# Altium footprint library DA14531MOD-00F01002 Bluetooth v5.1 Transceiver Module.PcbLib: 1 footprints
Each footprint in its own frame and in the unit in brackets; x right, y up, seen from the top. Pads: shape width x height; smd on the part's side, far side on the other; paste and mask are expansions set on the pad; w line width, h text height; cw(c..) or ccw(c..) is an arc to the next point about the centre after c.
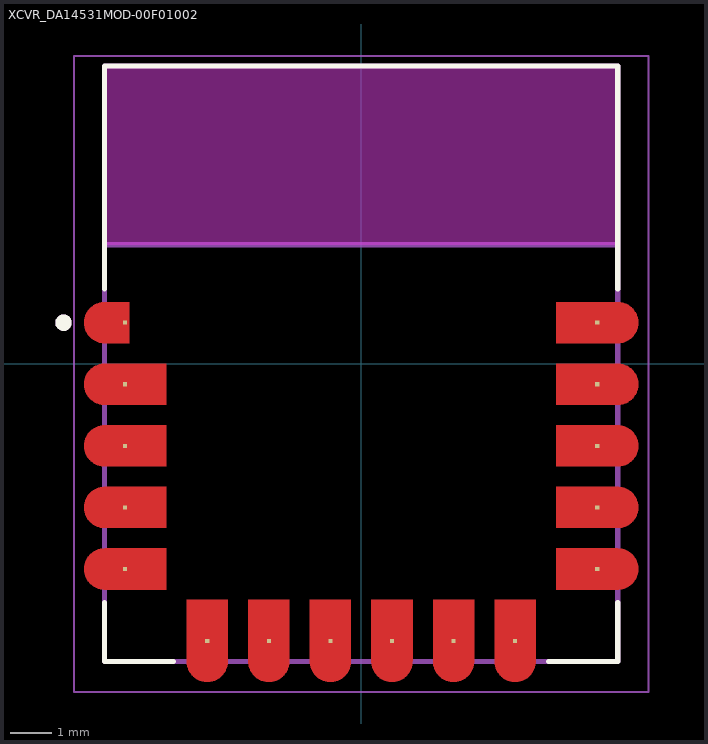
[diagram p0: the footprint, top view; thin cyan lines are the x and y axes]

## XCVR_DA14531MOD-00F01002 [mm]
pads (16):
  rect 0.1x0.1 smd paste-1 mask+0: J1(-5.75,1) J2(-5.75,-0.5) J3(-5.75,-2) J4(-5.75,-3.5) J5(-5.75,-5) J6(-3.75,-6.75) J7(-2.25,-6.75) J8(-0.75,-6.75) J9(0.75,-6.75) J10(2.25,-6.75) J11(3.75,-6.75) J12(5.75,-5) J13(5.75,-3.5) J14(5.75,-2) J15(5.75,-0.5) J16(5.75,1)
Top Layer:
  region: -5.65,0.5 -6.25,0.5 -6.276,0.501 -6.302,0.503 -6.328,0.506 -6.354,0.511 -6.379,0.517 -6.405,0.524 -6.429,0.533 -6.453,0.543 -6.477,0.554 -6.5,0.567 -6.522,0.581 -6.544,0.595 -6.565,0.611 -6.585,0.628 -6.604,0.646 -6.622,0.665 -6.639,0.685 -6.655,0.706 -6.669,0.728 -6.683,0.75 -6.696,0.773 -6.707,0.797 -6.717,0.821 -6.726,0.845 -6.733,0.871 -6.739,0.896 -6.744,0.922 -6.747,0.948 -6.749,0.974 -6.75,1 -6.749,1.026 -6.747,1.052 -6.744,1.078 -6.739,1.104 -6.733,1.129 -6.726,1.155 -6.717,1.179 -6.707,1.203 -6.696,1.227 -6.683,1.25 -6.669,1.272 -6.655,1.294 -6.639,1.315 -6.622,1.335 -6.604,1.354 -6.585,1.372 -6.565,1.389 -6.544,1.405 -6.522,1.419 -6.5,1.433 -6.477,1.446 -6.453,1.457 -6.429,1.467 -6.405,1.476 -6.379,1.483 -6.354,1.489 -6.328,1.494 -6.302,1.497 -6.276,1.499 -6.25,1.5 -5.65,1.5
  region: -4.75,-1 -6.25,-1 -6.276,-0.999 -6.302,-0.997 -6.328,-0.994 -6.354,-0.989 -6.379,-0.983 -6.405,-0.976 -6.429,-0.967 -6.453,-0.957 -6.477,-0.946 -6.5,-0.933 -6.522,-0.919 -6.544,-0.905 -6.565,-0.889 -6.585,-0.872 -6.604,-0.854 -6.622,-0.835 -6.639,-0.815 -6.655,-0.794 -6.669,-0.772 -6.683,-0.75 -6.696,-0.727 -6.707,-0.703 -6.717,-0.679 -6.726,-0.655 -6.733,-0.629 -6.739,-0.604 -6.744,-0.578 -6.747,-0.552 -6.749,-0.526 -6.75,-0.5 -6.749,-0.474 -6.747,-0.448 -6.744,-0.422 -6.739,-0.396 -6.733,-0.371 -6.726,-0.345 -6.717,-0.321 -6.707,-0.297 -6.696,-0.273 -6.683,-0.25 -6.669,-0.228 -6.655,-0.206 -6.639,-0.185 -6.622,-0.165 -6.604,-0.146 -6.585,-0.128 -6.565,-0.111 -6.544,-0.095 -6.522,-0.081 -6.5,-0.067 -6.477,-0.054 -6.453,-0.043 -6.429,-0.033 -6.405,-0.024 -6.379,-0.017 -6.354,-0.011 -6.328,-0.006 -6.302,-0.003 -6.276,-0.001 -6.25,0 -4.75,0
  region: -4.75,-2.5 -6.25,-2.5 -6.276,-2.499 -6.302,-2.497 -6.328,-2.494 -6.354,-2.489 -6.379,-2.483 -6.405,-2.476 -6.429,-2.467 -6.453,-2.457 -6.477,-2.446 -6.5,-2.433 -6.522,-2.419 -6.544,-2.405 -6.565,-2.389 -6.585,-2.372 -6.604,-2.354 -6.622,-2.335 -6.639,-2.315 -6.655,-2.294 -6.669,-2.272 -6.683,-2.25 -6.696,-2.227 -6.707,-2.203 -6.717,-2.179 -6.726,-2.155 -6.733,-2.129 -6.739,-2.104 -6.744,-2.078 -6.747,-2.052 -6.749,-2.026 -6.75,-2 -6.749,-1.974 -6.747,-1.948 -6.744,-1.922 -6.739,-1.896 -6.733,-1.871 -6.726,-1.845 -6.717,-1.821 -6.707,-1.797 -6.696,-1.773 -6.683,-1.75 -6.669,-1.728 -6.655,-1.706 -6.639,-1.685 -6.622,-1.665 -6.604,-1.646 -6.585,-1.628 -6.565,-1.611 -6.544,-1.595 -6.522,-1.581 -6.5,-1.567 -6.477,-1.554 -6.453,-1.543 -6.429,-1.533 -6.405,-1.524 -6.379,-1.517 -6.354,-1.511 -6.328,-1.506 -6.302,-1.503 -6.276,-1.501 -6.25,-1.5 -4.75,-1.5
  region: -4.75,-4 -6.25,-4 -6.276,-3.999 -6.302,-3.997 -6.328,-3.994 -6.354,-3.989 -6.379,-3.983 -6.405,-3.976 -6.429,-3.967 -6.453,-3.957 -6.477,-3.946 -6.5,-3.933 -6.522,-3.919 -6.544,-3.905 -6.565,-3.889 -6.585,-3.872 -6.604,-3.854 -6.622,-3.835 -6.639,-3.815 -6.655,-3.794 -6.669,-3.772 -6.683,-3.75 -6.696,-3.727 -6.707,-3.703 -6.717,-3.679 -6.726,-3.655 -6.733,-3.629 -6.739,-3.604 -6.744,-3.578 -6.747,-3.552 -6.749,-3.526 -6.75,-3.5 -6.749,-3.474 -6.747,-3.448 -6.744,-3.422 -6.739,-3.396 -6.733,-3.371 -6.726,-3.345 -6.717,-3.321 -6.707,-3.297 -6.696,-3.273 -6.683,-3.25 -6.669,-3.228 -6.655,-3.206 -6.639,-3.185 -6.622,-3.165 -6.604,-3.146 -6.585,-3.128 -6.565,-3.111 -6.544,-3.095 -6.522,-3.081 -6.5,-3.067 -6.477,-3.054 -6.453,-3.043 -6.429,-3.033 -6.405,-3.024 -6.379,-3.017 -6.354,-3.011 -6.328,-3.006 -6.302,-3.003 -6.276,-3.001 -6.25,-3 -4.75,-3
  region: -4.75,-5.5 -6.25,-5.5 -6.276,-5.499 -6.302,-5.497 -6.328,-5.494 -6.354,-5.489 -6.379,-5.483 -6.405,-5.476 -6.429,-5.467 -6.453,-5.457 -6.477,-5.446 -6.5,-5.433 -6.522,-5.419 -6.544,-5.405 -6.565,-5.389 -6.585,-5.372 -6.604,-5.354 -6.622,-5.335 -6.639,-5.315 -6.655,-5.294 -6.669,-5.272 -6.683,-5.25 -6.696,-5.227 -6.707,-5.203 -6.717,-5.179 -6.726,-5.155 -6.733,-5.129 -6.739,-5.104 -6.744,-5.078 -6.747,-5.052 -6.749,-5.026 -6.75,-5 -6.749,-4.974 -6.747,-4.948 -6.744,-4.922 -6.739,-4.896 -6.733,-4.871 -6.726,-4.845 -6.717,-4.821 -6.707,-4.797 -6.696,-4.773 -6.683,-4.75 -6.669,-4.728 -6.655,-4.706 -6.639,-4.685 -6.622,-4.665 -6.604,-4.646 -6.585,-4.628 -6.565,-4.611 -6.544,-4.595 -6.522,-4.581 -6.5,-4.567 -6.477,-4.554 -6.453,-4.543 -6.429,-4.533 -6.405,-4.524 -6.379,-4.517 -6.354,-4.511 -6.328,-4.506 -6.302,-4.503 -6.276,-4.501 -6.25,-4.5 -4.75,-4.5
  region: -3.25,-7.25 -3.251,-7.276 -3.253,-7.302 -3.256,-7.328 -3.261,-7.354 -3.267,-7.379 -3.274,-7.405 -3.283,-7.429 -3.293,-7.453 -3.304,-7.477 -3.317,-7.5 -3.331,-7.522 -3.345,-7.544 -3.361,-7.565 -3.378,-7.585 -3.396,-7.604 -3.415,-7.622 -3.435,-7.639 -3.456,-7.655 -3.478,-7.669 -3.5,-7.683 -3.523,-7.696 -3.547,-7.707 -3.571,-7.717 -3.595,-7.726 -3.621,-7.733 -3.646,-7.739 -3.672,-7.744 -3.698,-7.747 -3.724,-7.749 -3.75,-7.75 -3.776,-7.749 -3.802,-7.747 -3.828,-7.744 -3.854,-7.739 -3.879,-7.733 -3.905,-7.726 -3.929,-7.717 -3.953,-7.707 -3.977,-7.696 -4,-7.683 -4.022,-7.669 -4.044,-7.655 -4.065,-7.639 -4.085,-7.622 -4.104,-7.604 -4.122,-7.585 -4.139,-7.565 -4.155,-7.544 -4.169,-7.522 -4.183,-7.5 -4.196,-7.477 -4.207,-7.453 -4.217,-7.429 -4.226,-7.405 -4.233,-7.379 -4.239,-7.354 -4.244,-7.328 -4.247,-7.302 -4.249,-7.276 -4.25,-7.25 -4.25,-5.75 -3.25,-5.75
  region: -1.75,-7.25 -1.751,-7.276 -1.753,-7.302 -1.756,-7.328 -1.761,-7.354 -1.767,-7.379 -1.774,-7.405 -1.783,-7.429 -1.793,-7.453 -1.804,-7.477 -1.817,-7.5 -1.831,-7.522 -1.845,-7.544 -1.861,-7.565 -1.878,-7.585 -1.896,-7.604 -1.915,-7.622 -1.935,-7.639 -1.956,-7.655 -1.978,-7.669 -2,-7.683 -2.023,-7.696 -2.047,-7.707 -2.071,-7.717 -2.095,-7.726 -2.121,-7.733 -2.146,-7.739 -2.172,-7.744 -2.198,-7.747 -2.224,-7.749 -2.25,-7.75 -2.276,-7.749 -2.302,-7.747 -2.328,-7.744 -2.354,-7.739 -2.379,-7.733 -2.405,-7.726 -2.429,-7.717 -2.453,-7.707 -2.477,-7.696 -2.5,-7.683 -2.522,-7.669 -2.544,-7.655 -2.565,-7.639 -2.585,-7.622 -2.604,-7.604 -2.622,-7.585 -2.639,-7.565 -2.655,-7.544 -2.669,-7.522 -2.683,-7.5 -2.696,-7.477 -2.707,-7.453 -2.717,-7.429 -2.726,-7.405 -2.733,-7.379 -2.739,-7.354 -2.744,-7.328 -2.747,-7.302 -2.749,-7.276 -2.75,-7.25 -2.75,-5.75 -1.75,-5.75
  region: -0.25,-7.25 -0.251,-7.276 -0.253,-7.302 -0.256,-7.328 -0.261,-7.354 -0.267,-7.379 -0.274,-7.405 -0.283,-7.429 -0.293,-7.453 -0.304,-7.477 -0.317,-7.5 -0.331,-7.522 -0.345,-7.544 -0.361,-7.565 -0.378,-7.585 -0.396,-7.604 -0.415,-7.622 -0.435,-7.639 -0.456,-7.655 -0.478,-7.669 -0.5,-7.683 -0.523,-7.696 -0.547,-7.707 -0.571,-7.717 -0.595,-7.726 -0.621,-7.733 -0.646,-7.739 -0.672,-7.744 -0.698,-7.747 -0.724,-7.749 -0.75,-7.75 -0.776,-7.749 -0.802,-7.747 -0.828,-7.744 -0.854,-7.739 -0.879,-7.733 -0.905,-7.726 -0.929,-7.717 -0.953,-7.707 -0.977,-7.696 -1,-7.683 -1.022,-7.669 -1.044,-7.655 -1.065,-7.639 -1.085,-7.622 -1.104,-7.604 -1.122,-7.585 -1.139,-7.565 -1.155,-7.544 -1.169,-7.522 -1.183,-7.5 -1.196,-7.477 -1.207,-7.453 -1.217,-7.429 -1.226,-7.405 -1.233,-7.379 -1.239,-7.354 -1.244,-7.328 -1.247,-7.302 -1.249,-7.276 -1.25,-7.25 -1.25,-5.75 -0.25,-5.75
  region: 1.25,-7.25 1.249,-7.276 1.247,-7.302 1.244,-7.328 1.239,-7.354 1.233,-7.379 1.226,-7.405 1.217,-7.429 1.207,-7.453 1.196,-7.477 1.183,-7.5 1.169,-7.522 1.155,-7.544 1.139,-7.565 1.122,-7.585 1.104,-7.604 1.085,-7.622 1.065,-7.639 1.044,-7.655 1.022,-7.669 1,-7.683 0.977,-7.696 0.953,-7.707 0.929,-7.717 0.905,-7.726 0.879,-7.733 0.854,-7.739 0.828,-7.744 0.802,-7.747 0.776,-7.749 0.75,-7.75 0.724,-7.749 0.698,-7.747 0.672,-7.744 0.646,-7.739 0.621,-7.733 0.595,-7.726 0.571,-7.717 0.547,-7.707 0.523,-7.696 0.5,-7.683 0.478,-7.669 0.456,-7.655 0.435,-7.639 0.415,-7.622 0.396,-7.604 0.378,-7.585 0.361,-7.565 0.345,-7.544 0.331,-7.522 0.317,-7.5 0.304,-7.477 0.293,-7.453 0.283,-7.429 0.274,-7.405 0.267,-7.379 0.261,-7.354 0.256,-7.328 0.253,-7.302 0.251,-7.276 0.25,-7.25 0.25,-5.75 1.25,-5.75
  region: 2.75,-7.25 2.749,-7.276 2.747,-7.302 2.744,-7.328 2.739,-7.354 2.733,-7.379 2.726,-7.405 2.717,-7.429 2.707,-7.453 2.696,-7.477 2.683,-7.5 2.669,-7.522 2.655,-7.544 2.639,-7.565 2.622,-7.585 2.604,-7.604 2.585,-7.622 2.565,-7.639 2.544,-7.655 2.522,-7.669 2.5,-7.683 2.477,-7.696 2.453,-7.707 2.429,-7.717 2.405,-7.726 2.379,-7.733 2.354,-7.739 2.328,-7.744 2.302,-7.747 2.276,-7.749 2.25,-7.75 2.224,-7.749 2.198,-7.747 2.172,-7.744 2.146,-7.739 2.121,-7.733 2.095,-7.726 2.071,-7.717 2.047,-7.707 2.023,-7.696 2,-7.683 1.978,-7.669 1.956,-7.655 1.935,-7.639 1.915,-7.622 1.896,-7.604 1.878,-7.585 1.861,-7.565 1.845,-7.544 1.831,-7.522 1.817,-7.5 1.804,-7.477 1.793,-7.453 1.783,-7.429 1.774,-7.405 1.767,-7.379 1.761,-7.354 1.756,-7.328 1.753,-7.302 1.751,-7.276 1.75,-7.25 1.75,-5.75 2.75,-5.75
  region: 4.25,-7.25 4.249,-7.276 4.247,-7.302 4.244,-7.328 4.239,-7.354 4.233,-7.379 4.226,-7.405 4.217,-7.429 4.207,-7.453 4.196,-7.477 4.183,-7.5 4.169,-7.522 4.155,-7.544 4.139,-7.565 4.122,-7.585 4.104,-7.604 4.085,-7.622 4.065,-7.639 4.044,-7.655 4.022,-7.669 4,-7.683 3.977,-7.696 3.953,-7.707 3.929,-7.717 3.905,-7.726 3.879,-7.733 3.854,-7.739 3.828,-7.744 3.802,-7.747 3.776,-7.749 3.75,-7.75 3.724,-7.749 3.698,-7.747 3.672,-7.744 3.646,-7.739 3.621,-7.733 3.595,-7.726 3.571,-7.717 3.547,-7.707 3.523,-7.696 3.5,-7.683 3.478,-7.669 3.456,-7.655 3.435,-7.639 3.415,-7.622 3.396,-7.604 3.378,-7.585 3.361,-7.565 3.345,-7.544 3.331,-7.522 3.317,-7.5 3.304,-7.477 3.293,-7.453 3.283,-7.429 3.274,-7.405 3.267,-7.379 3.261,-7.354 3.256,-7.328 3.253,-7.302 3.251,-7.276 3.25,-7.25 3.25,-5.75 4.25,-5.75
  region: 6.276,-4.501 6.302,-4.503 6.328,-4.506 6.354,-4.511 6.379,-4.517 6.405,-4.524 6.429,-4.533 6.453,-4.543 6.477,-4.554 6.5,-4.567 6.522,-4.581 6.544,-4.595 6.565,-4.611 6.585,-4.628 6.604,-4.646 6.622,-4.665 6.639,-4.685 6.655,-4.706 6.669,-4.728 6.683,-4.75 6.696,-4.773 6.707,-4.797 6.717,-4.821 6.726,-4.845 6.733,-4.871 6.739,-4.896 6.744,-4.922 6.747,-4.948 6.749,-4.974 6.75,-5 6.749,-5.026 6.747,-5.052 6.744,-5.078 6.739,-5.104 6.733,-5.129 6.726,-5.155 6.717,-5.179 6.707,-5.203 6.696,-5.227 6.683,-5.25 6.669,-5.272 6.655,-5.294 6.639,-5.315 6.622,-5.335 6.604,-5.354 6.585,-5.372 6.565,-5.389 6.544,-5.405 6.522,-5.419 6.5,-5.433 6.477,-5.446 6.453,-5.457 6.429,-5.467 6.405,-5.476 6.379,-5.483 6.354,-5.489 6.328,-5.494 6.302,-5.497 6.276,-5.499 6.25,-5.5 4.75,-5.5 4.75,-4.5 6.25,-4.5
  region: 6.276,-3.001 6.302,-3.003 6.328,-3.006 6.354,-3.011 6.379,-3.017 6.405,-3.024 6.429,-3.033 6.453,-3.043 6.477,-3.054 6.5,-3.067 6.522,-3.081 6.544,-3.095 6.565,-3.111 6.585,-3.128 6.604,-3.146 6.622,-3.165 6.639,-3.185 6.655,-3.206 6.669,-3.228 6.683,-3.25 6.696,-3.273 6.707,-3.297 6.717,-3.321 6.726,-3.345 6.733,-3.371 6.739,-3.396 6.744,-3.422 6.747,-3.448 6.749,-3.474 6.75,-3.5 6.749,-3.526 6.747,-3.552 6.744,-3.578 6.739,-3.604 6.733,-3.629 6.726,-3.655 6.717,-3.679 6.707,-3.703 6.696,-3.727 6.683,-3.75 6.669,-3.772 6.655,-3.794 6.639,-3.815 6.622,-3.835 6.604,-3.854 6.585,-3.872 6.565,-3.889 6.544,-3.905 6.522,-3.919 6.5,-3.933 6.477,-3.946 6.453,-3.957 6.429,-3.967 6.405,-3.976 6.379,-3.983 6.354,-3.989 6.328,-3.994 6.302,-3.997 6.276,-3.999 6.25,-4 4.75,-4 4.75,-3 6.25,-3
  region: 6.276,-1.501 6.302,-1.503 6.328,-1.506 6.354,-1.511 6.379,-1.517 6.405,-1.524 6.429,-1.533 6.453,-1.543 6.477,-1.554 6.5,-1.567 6.522,-1.581 6.544,-1.595 6.565,-1.611 6.585,-1.628 6.604,-1.646 6.622,-1.665 6.639,-1.685 6.655,-1.706 6.669,-1.728 6.683,-1.75 6.696,-1.773 6.707,-1.797 6.717,-1.821 6.726,-1.845 6.733,-1.871 6.739,-1.896 6.744,-1.922 6.747,-1.948 6.749,-1.974 6.75,-2 6.749,-2.026 6.747,-2.052 6.744,-2.078 6.739,-2.104 6.733,-2.129 6.726,-2.155 6.717,-2.179 6.707,-2.203 6.696,-2.227 6.683,-2.25 6.669,-2.272 6.655,-2.294 6.639,-2.315 6.622,-2.335 6.604,-2.354 6.585,-2.372 6.565,-2.389 6.544,-2.405 6.522,-2.419 6.5,-2.433 6.477,-2.446 6.453,-2.457 6.429,-2.467 6.405,-2.476 6.379,-2.483 6.354,-2.489 6.328,-2.494 6.302,-2.497 6.276,-2.499 6.25,-2.5 4.75,-2.5 4.75,-1.5 6.25,-1.5
  region: 6.276,-0.001 6.302,-0.003 6.328,-0.006 6.354,-0.011 6.379,-0.017 6.405,-0.024 6.429,-0.033 6.453,-0.043 6.477,-0.054 6.5,-0.067 6.522,-0.081 6.544,-0.095 6.565,-0.111 6.585,-0.128 6.604,-0.146 6.622,-0.165 6.639,-0.185 6.655,-0.206 6.669,-0.228 6.683,-0.25 6.696,-0.273 6.707,-0.297 6.717,-0.321 6.726,-0.345 6.733,-0.371 6.739,-0.396 6.744,-0.422 6.747,-0.448 6.749,-0.474 6.75,-0.5 6.749,-0.526 6.747,-0.552 6.744,-0.578 6.739,-0.604 6.733,-0.629 6.726,-0.655 6.717,-0.679 6.707,-0.703 6.696,-0.727 6.683,-0.75 6.669,-0.772 6.655,-0.794 6.639,-0.815 6.622,-0.835 6.604,-0.854 6.585,-0.872 6.565,-0.889 6.544,-0.905 6.522,-0.919 6.5,-0.933 6.477,-0.946 6.453,-0.957 6.429,-0.967 6.405,-0.976 6.379,-0.983 6.354,-0.989 6.328,-0.994 6.302,-0.997 6.276,-0.999 6.25,-1 4.75,-1 4.75,0 6.25,0
  region: 6.276,1.499 6.302,1.497 6.328,1.494 6.354,1.489 6.379,1.483 6.405,1.476 6.429,1.467 6.453,1.457 6.477,1.446 6.5,1.433 6.522,1.419 6.544,1.405 6.565,1.389 6.585,1.372 6.604,1.354 6.622,1.335 6.639,1.315 6.655,1.294 6.669,1.272 6.683,1.25 6.696,1.227 6.707,1.203 6.717,1.179 6.726,1.155 6.733,1.129 6.739,1.104 6.744,1.078 6.747,1.052 6.749,1.026 6.75,1 6.749,0.974 6.747,0.948 6.744,0.922 6.739,0.896 6.733,0.871 6.726,0.845 6.717,0.821 6.707,0.797 6.696,0.773 6.683,0.75 6.669,0.728 6.655,0.706 6.639,0.685 6.622,0.665 6.604,0.646 6.585,0.628 6.565,0.611 6.544,0.595 6.522,0.581 6.5,0.567 6.477,0.554 6.453,0.543 6.429,0.533 6.405,0.524 6.379,0.517 6.354,0.511 6.328,0.506 6.302,0.503 6.276,0.501 6.25,0.5 4.75,0.5 4.75,1.5 6.25,1.5
Top Overlay:
  circle w0.2: c-7.25,1 r0.1
  lines w0.127: -6.25,-5.82 -6.25,-7.25 -4.57,-7.25 ; -6.25,1.82 -6.25,7.25 6.25,7.25 6.25,1.82 ; 4.57,-7.25 6.25,-7.25 6.25,-5.82
Top Paste:
  drawing of 16 lines, arcs and shapes, not listed
Top Solder:
  drawing of 16 lines, arcs and shapes, not listed
Keep-Out Layer:
  region: 6.25,2.9 -6.25,2.9 -6.25,7.25 6.25,7.25
Mechanical 13:
  circle w0.2: c-7.25,1 r0.1
  lines w0.127: -6.25,2.9 -6.25,-7.25 6.25,-7.25 6.25,2.9 ; -6.25,2.9 -6.25,7.25 6.25,7.25 6.25,2.9 ; -6.25,2.9 6.25,2.9
Mechanical 15:
  lines w0.05: -7,-8 7,-8 7,7.5 -7,7.5 -7,-8